# Altium footprint library 5050 LED package.PcbLib: 1 footprints
Each footprint in its own frame and in the unit in brackets; x right, y up, seen from the top. Pads: shape width x height; smd on the part's side, far side on the other; paste and mask are expansions set on the pad; w line width, h text height; cw(c..) or ccw(c..) is an arc to the next point about the centre after c.
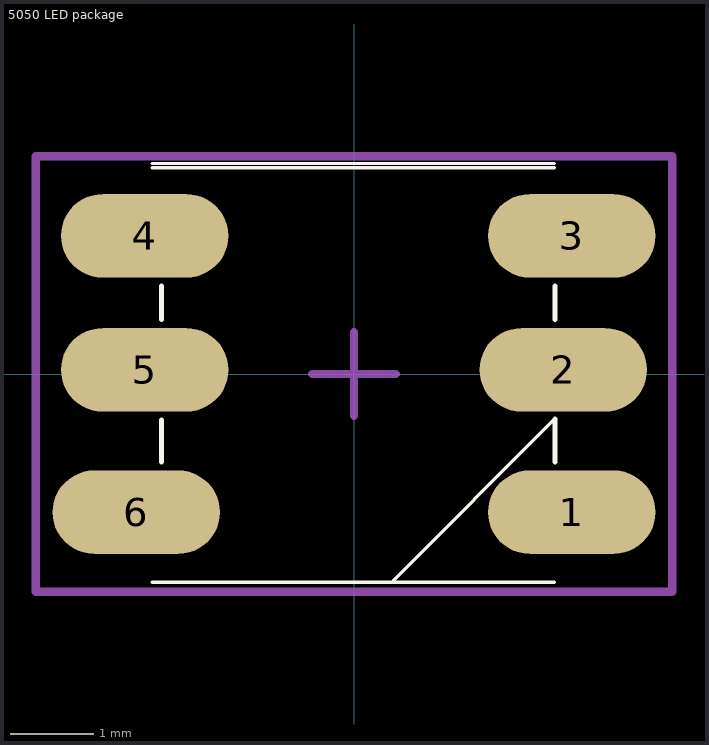
[diagram p0: the footprint, top view; thin cyan lines are the x and y axes]

## 5050 LED package [mm] "DESIGNER ABBAS BASEREH"
height 1.6
pads (6):
  oval 2x1 smd: 1(2.6,-1.65) 2(2.5,0.05) 3(2.6,1.65) 4(-2.5,1.65) 5(-2.5,0.05) 6(-2.6,-1.65)
Top Overlay:
  lines w0.04: -2.41,-2.486 1.691,-2.486 2.39,-2.486 ; -2.41,2.464 2.39,2.464 ; -2.41,2.514 2.39,2.514 ; 0.475,-2.461 2.4,-0.536
  lines w0.06: -2.3,-1.05 -2.3,-0.55 ; -2.3,0.65 -2.3,1.05 ; 2.4,-1.05 2.4,-0.536 ; 2.4,0.65 2.4,1.05
Mechanical 15:
  lines w0.1: -0.5,0 0.5,0 ; 0,-0.5 0,0.5 ; -3.8,-2.6 -3.8,2.6 3.8,2.6 3.8,-2.6 -3.8,-2.6
3D body "User Library-APA102C.STEP": height 1.55, standoff 0, extent -2.75,-2.5 2.75,2.5